# EAGLE library part TXB0108PWR_BOTTOM (library MyCMOSsensor)
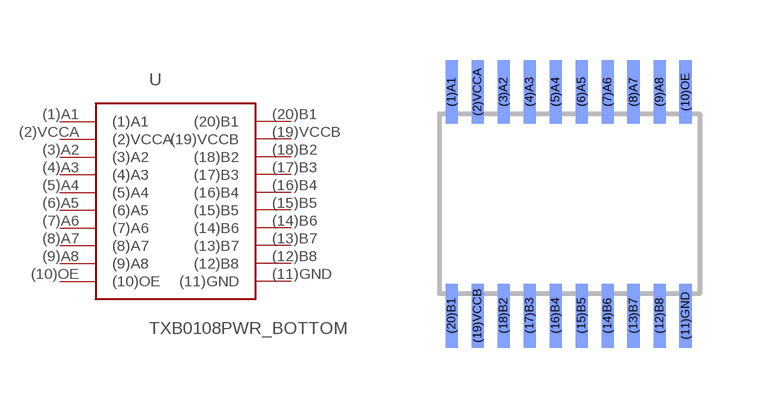
[diagram p4: symbol with the pads of TXB0108PWR_BOTTOM; footprint TXB0108PWR_BOTTOM]

Designator prefix -

## TXB0108PWR_BOTTOM  [TXB0108PWR_BOTTOM]
(1)A1  (1)A1
(2)VCCA  (2)VCCA
(3)A2  (3)A2
(4)A3  (4)A3
(5)A4  (5)A4
(6)A5  (6)A5
(7)A6  (7)A6
(8)A7  (8)A7
(9)A8  (9)A8
(10)OE  (10)OE
(11)GND  (11)GND
(12)B8  (12)B8
(13)B7  (13)B7
(14)B6  (14)B6
(15)B5  (15)B5
(16)B4  (16)B4
(17)B3  (17)B3
(18)B2  (18)B2
(19)VCCB  (19)VCCB
(20)B1  (20)B1

## Footprint TXB0108PWR_BOTTOM (pad centres in mm)
smd 0.3 x 1.6 bottom: (1)A1 0,2.8; (2)VCCA 0.65,2.8; (3)A2 1.3,2.8; (4)A3 1.95,2.8; (5)A4 2.6,2.8; (6)A5 3.25,2.8; (7)A6 3.9,2.8; (8)A7 4.55,2.8; (9)A8 5.2,2.8; (10)OE 5.85,2.8; (11)GND 5.85,-2.8; (12)B8 5.2,-2.8; (13)B7 4.55,-2.8; (14)B6 3.9,-2.8; (15)B5 3.25,-2.8; (16)B4 2.6,-2.8; (17)B3 1.95,-2.8; (18)B2 1.3,-2.8; (19)VCCB 0.65,-2.8; (20)B1 0,-2.8